# EAGLE library part CC8530_RHA_40 (library Texas Instruments)
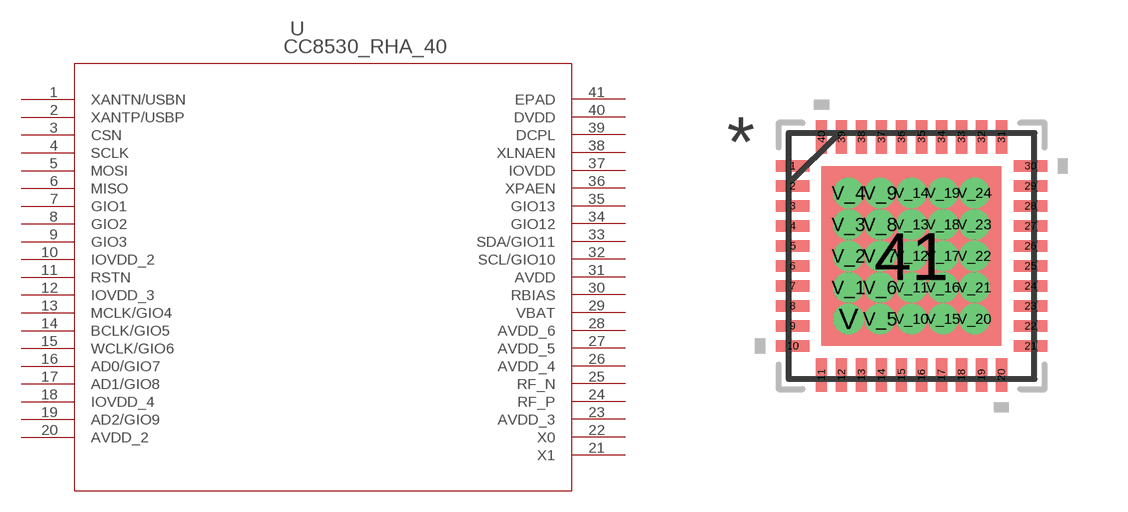
[diagram p8: symbol with the pads of RHA40_4P5X4P5; footprint RHA40_4P5X4P5]

Designator prefix U

## CC8530_RHA_40 (DATASHEETURL: http://www.ti.com/lit/gpn/CC8530; DESCRIPTION: PurePath Wireless 2.4 GHz RF SoC for wireless digital audio streaming; FAMILY_NAME: PurePath Wireless Audio; GENERIC_PART_NUMBER: CC8530; INDUSTRY_STD_PKG_TYPE: VQFN; MANUFACTURER: Texas Instruments; PACKAGE_DESIGNATOR: RHA; PIN_COUNT: 40)  [RHA40_4P5X4P5]
1  XANTN/USBN
2  XANTP/USBP
3  CSN  in
4  SCLK
5  MOSI
6  MISO
7  GIO1
8  GIO2
9  GIO3
10  IOVDD_2  pwr
11  RSTN  in
12  IOVDD_3  pwr
13  MCLK/GIO4
14  BCLK/GIO5
15  WCLK/GIO6
16  AD0/GIO7
17  AD1/GIO8
18  IOVDD_4  pwr
19  AD2/GIO9
20  AVDD_2  pwr
21  X1
22  X0
23  AVDD_3  pwr
24  RF_P
25  RF_N
26  AVDD_4  pwr
27  AVDD_5  pwr
28  AVDD_6  pwr
29  VBAT  in
30  RBIAS  out
31  AVDD  pwr
32  SCL/GIO10
33  SDA/GIO11
34  GIO12
35  GIO13
36  XPAEN
37  IOVDD  pwr
38  XLNAEN
39  DCPL  pwr
40  DVDD  pwr
41  EPAD  pwr

## Footprint RHA40_4P5X4P5 (pad centres in mm)
smd 0.838 x 0.279: 1 -2.975,2.25; 2 -2.975,1.75; 3 -2.975,1.25; 4 -2.975,0.75; 5 -2.975,0.25; 6 -2.975,-0.25; 7 -2.975,-0.75; 8 -2.975,-1.25; 9 -2.975,-1.75; 10 -2.975,-2.25; 21 2.975,-2.25; 22 2.975,-1.75; 23 2.975,-1.25; 24 2.975,-0.75; 25 2.975,-0.25; 26 2.975,0.25; 27 2.975,0.75; 28 2.975,1.25; 29 2.975,1.75; 30 2.975,2.25
smd 0.279 x 0.838: 11 -2.251,-2.975; 12 -1.75,-2.975; 13 -1.25,-2.975; 14 -0.75,-2.975; 15 -0.25,-2.975; 16 0.25,-2.975; 17 0.75,-2.975; 18 1.25,-2.975; 19 1.75,-2.975; 20 2.251,-2.975; 31 2.251,2.975; 32 1.75,2.975; 33 1.25,2.975; 34 0.75,2.975; 35 0.25,2.975; 36 -0.25,2.975; 37 -0.75,2.975; 38 -1.25,2.975; 39 -1.75,2.975; 40 -2.251,2.975
smd 4.496 x 4.496: 41 0,0
drill 0.254: V -1.575,-1.575; V_1 -1.575,-0.787; V_2 -1.575,0; V_3 -1.575,0.787; V_4 -1.575,1.575; V_5 -0.787,-1.575; V_6 -0.787,-0.787; V_7 -0.787,0; V_8 -0.787,0.787; V_9 -0.787,1.575; V_10 0,-1.575; V_11 0,-0.787; V_12 0,0; V_13 0,0.787; V_14 0,1.575; V_15 0.787,-1.575; V_16 0.787,-0.787; V_17 0.787,0; V_18 0.787,0.787; V_19 0.787,1.575; V_20 1.575,-1.575; V_21 1.575,-0.787; V_22 1.575,0; V_23 1.575,0.787; V_24 1.575,1.575